# EAGLE library part LTC3855 (library PowerProducts)
Dual, Multiphase Synchronous DC/DC Controller with Differential Remote Sense
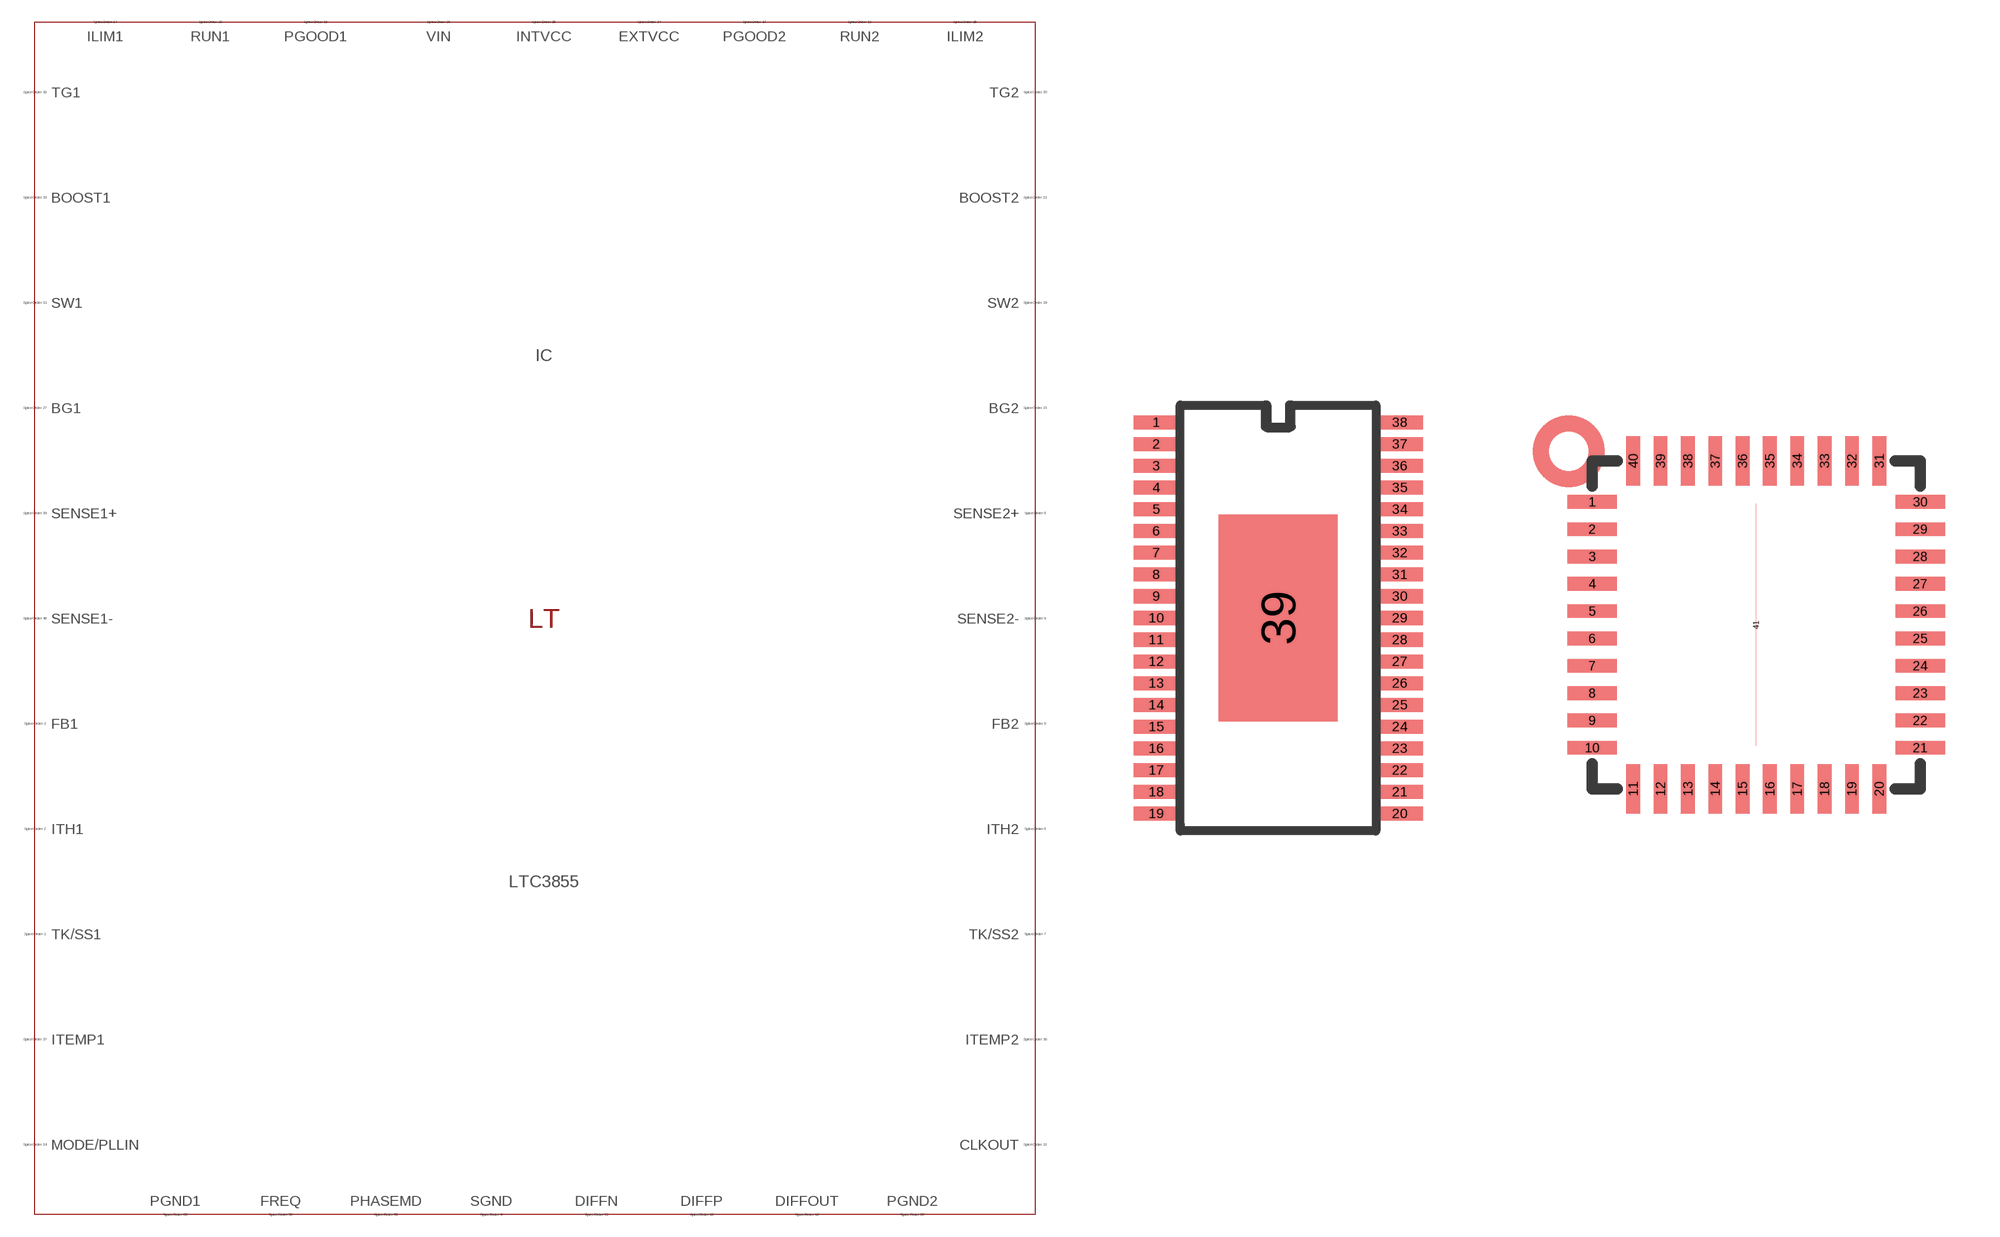
[diagram p371: symbol with the pads of TSSOP38AA(FE); footprints TSSOP38AA(FE), QFN40(UJ)]

Designator prefix IC

## LTC3855 (SPICEMODEL: LTC3855.sub; SPICEPREFIX: X; VALUE2: LTC3855)  [TSSOP38AA(FE)]
1  ITEMP2  pas
2  ITEMP1  pas
3  RUN1  pas
4  SENSE1+  pas
5  SENSE1-  pas
6  TK/SS1  pas
7  ITH1  pas
8  FB1  pas
9  FB2  pas
10  ITH2  pas
11  TK/SS2  pas
12  SENSE2+  pas
13  SENSE2-  pas
14  DIFFP  pas
15  DIFFN  pas
16  DIFFOUT  pas
17  RUN2  pas
18  ILIM1  pas
19  ILIM2  pas
20  PGOOD1  pas
21  PGOOD2  pas
22  SW2  pas
23  TG2  pas
24  BOOST2  pas
25  PGND2  pas
26  BG2  pas
27  EXTVCC  pas
28  INTVCC  pas
29  VIN  pas
30  BG1  pas
31  PGND1  pas
32  BOOST1  pas
33  TG1  pas
34  SW1  pas
35  CLKOUT  pas
36  PHASEMD  pas
37  MODE/PLLIN  pas
38  FREQ  pas
39  SGND  pas

## LTC3855UJ (SPICEMODEL: LTC3855.sub; SPICEPREFIX: X; VALUE2: LTC3855)  [QFN40(UJ)]
1  TK/SS1  pas
2  ITH1  pas
3  FB1  pas
4  SGND  pas
5  FB2  pas
6  ITH2  pas
7  TK/SS2  pas
8  SENSE2+  pas
9  SENSE2-  pas
10  DIFFP  pas
11  DIFFN  pas
12  DIFFOUT  pas
13  RUN2  pas
14  ILIM1  pas
15  ILIM2  pas
16  PGOOD1  pas
17  PGOOD2  pas
19  SW2  pas
20  TG2  pas
21  BOOST2  pas
22  PGND2  pas
23  BG2  pas
24  EXTVCC  pas
25  INTVCC  pas
26  VIN  pas
27  BG1  pas
28  PGND1  pas
29  BOOST1  pas
30  TG1  pas
31  SW1  pas
32  CLKOUT  pas
33  PHASEMD  pas
34  MODE/PLLIN  pas
35  FREQ  pas
36  ITEMP2  pas
37  ITEMP1  pas
38  RUN1  pas
39  SENSE1+  pas
40  SENSE1-  pas
41  SGND  pas

## Footprint TSSOP38AA(FE) (pad centres in mm)
Package generated from: TSSOP38AA(FE).asc (!PADS-POWERPCB-V9.3-BASIC! DESIGN DATABASE ASCII FILE 1.0) with :import-pads-powerpcb-v5.ulp Version 1.0.1 at 04.10.2012 14:11:40
smd 1.575 x 0.48: 1 -4.2,6.75; 2 -4.2,6; 3 -4.2,5.25; 4 -4.2,4.5; 5 -4.2,3.75; 6 -4.2,3; 7 -4.2,2.25; 8 -4.2,1.5; 9 -4.2,0.75; 10 -4.2,0; 11 -4.2,-0.75; 12 -4.2,-1.5; 13 -4.2,-2.25; 14 -4.2,-3; 15 -4.2,-3.75; 16 -4.2,-4.5; 17 -4.2,-5.25; 18 -4.2,-6; 19 -4.2,-6.75; 20 4.2,-6.75; 21 4.2,-6; 22 4.2,-5.25; 23 4.2,-4.5; 24 4.2,-3.75; 25 4.2,-3; 26 4.2,-2.25; 27 4.2,-1.5; 28 4.2,-0.75; 29 4.2,0; 30 4.2,0.75; 31 4.2,1.5; 32 4.2,2.25; 33 4.2,3; 34 4.2,3.75; 35 4.2,4.5; 36 4.2,5.25; 37 4.2,6; 38 4.2,6.75
smd 4.11 x 7.125: 39 0,0

## Footprint QFN40(UJ) (pad centres in mm)
Package generated from: QFN40(UJ).asc (!PADS-POWERPCB-V9.3-BASIC! DESIGN DATABASE ASCII FILE 1.0) with :import-pads-powerpcb-v5.ulp Version 1.0.1 at 04.10.2012 14:11:29
smd 1.35 x 0.375: 1 -4.5,3.375; 2 -4.5,2.625; 3 -4.5,1.875; 4 -4.5,1.125; 5 -4.5,0.375; 6 -4.5,-0.375; 7 -4.5,-1.125; 8 -4.5,-1.875; 9 -4.5,-2.625; 10 -4.5,-3.375; 21 4.5,-3.375; 22 4.5,-2.625; 23 4.5,-1.875; 24 4.5,-1.125; 25 4.5,-0.375; 26 4.5,0.375; 27 4.5,1.125; 28 4.5,1.875; 29 4.5,2.625; 30 4.5,3.375
smd 0.375 x 1.35: 11 -3.375,-4.5; 12 -2.625,-4.5; 13 -1.875,-4.5; 14 -1.125,-4.5; 15 -0.375,-4.5; 16 0.375,-4.5; 17 1.125,-4.5; 18 1.875,-4.5; 19 2.625,-4.5; 20 3.375,-4.5; 31 3.375,4.5; 32 2.625,4.5; 33 1.875,4.5; 34 1.125,4.5; 35 0.375,4.5; 36 -0.375,4.5; 37 -1.125,4.5; 38 -1.875,4.5; 39 -2.625,4.5; 40 -3.375,4.5
smd 0 x 6.63: 41 0,0